# Altium footprint library Level Converter.PcbLib: 1 footprints
Each footprint in its own frame and in the unit in brackets; x right, y up, seen from the top. Pads: shape width x height; smd on the part's side, far side on the other; paste and mask are expansions set on the pad; w line width, h text height; cw(c..) or ccw(c..) is an arc to the next point about the centre after c.
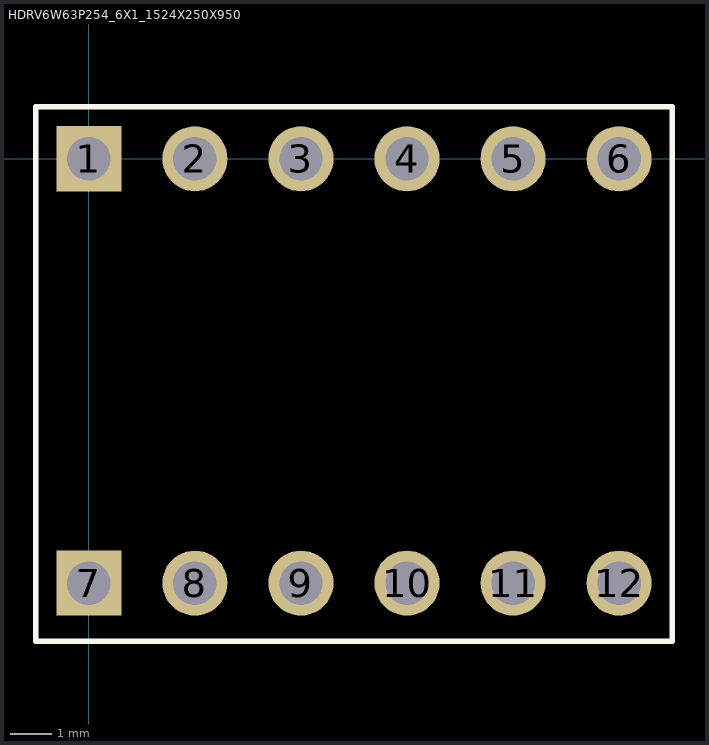
[diagram p0: the footprint, top view; thin cyan lines are the x and y axes]

## HDRV6W63P254_6X1_1524X250X950 [mm]
pads (12):
  rect 1.56x1.56 hole 1.04: 1(0,0) 7(0,-10.16)
  round 1.56 hole 1.04: 2(2.54,0) 3(5.08,0) 4(7.62,0) 5(10.16,0) 6(12.7,0) 8(2.54,-10.16) 9(5.08,-10.16) 10(7.62,-10.16) 11(10.16,-10.16) 12(12.7,-10.16)
Top Overlay:
  lines w0.127: -1.27,-6.858 -1.27,1.25 ; -1.27,1.25 -1.27,-11.557 13.97,-11.557 13.97,1.25 -1.27,1.25